# EAGLE library part IR2111_PDIP (library motordriverslib)
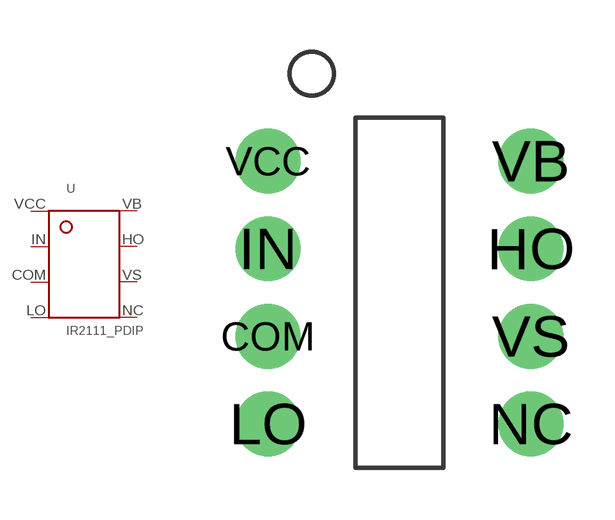
[diagram p2: symbol with the pads of 8PDIP; footprint 8PDIP]

Designator prefix U

## IR2111_PDIP  [8PDIP]
COM  P$3
HO  P$7
IN  P$2
LO  P$4
NC  P$5
VB  P$8
VCC  P$1
VS  P$6

## Footprint 8PDIP (pad centres in mm)
drill 1.016 pad 1.88: COM 0,-5.08; HO 7.62,-2.54; IN 0,-2.54; LO 0,-7.62; NC 7.62,-7.62; VB 7.62,0; VCC 0,0; VS 7.62,-5.08